# Altium schematic symbol library L-Inductor_Choke.SCHLIB: 27 symbols
Pins are listed as number, name and electrical type; pins without a type are passive.

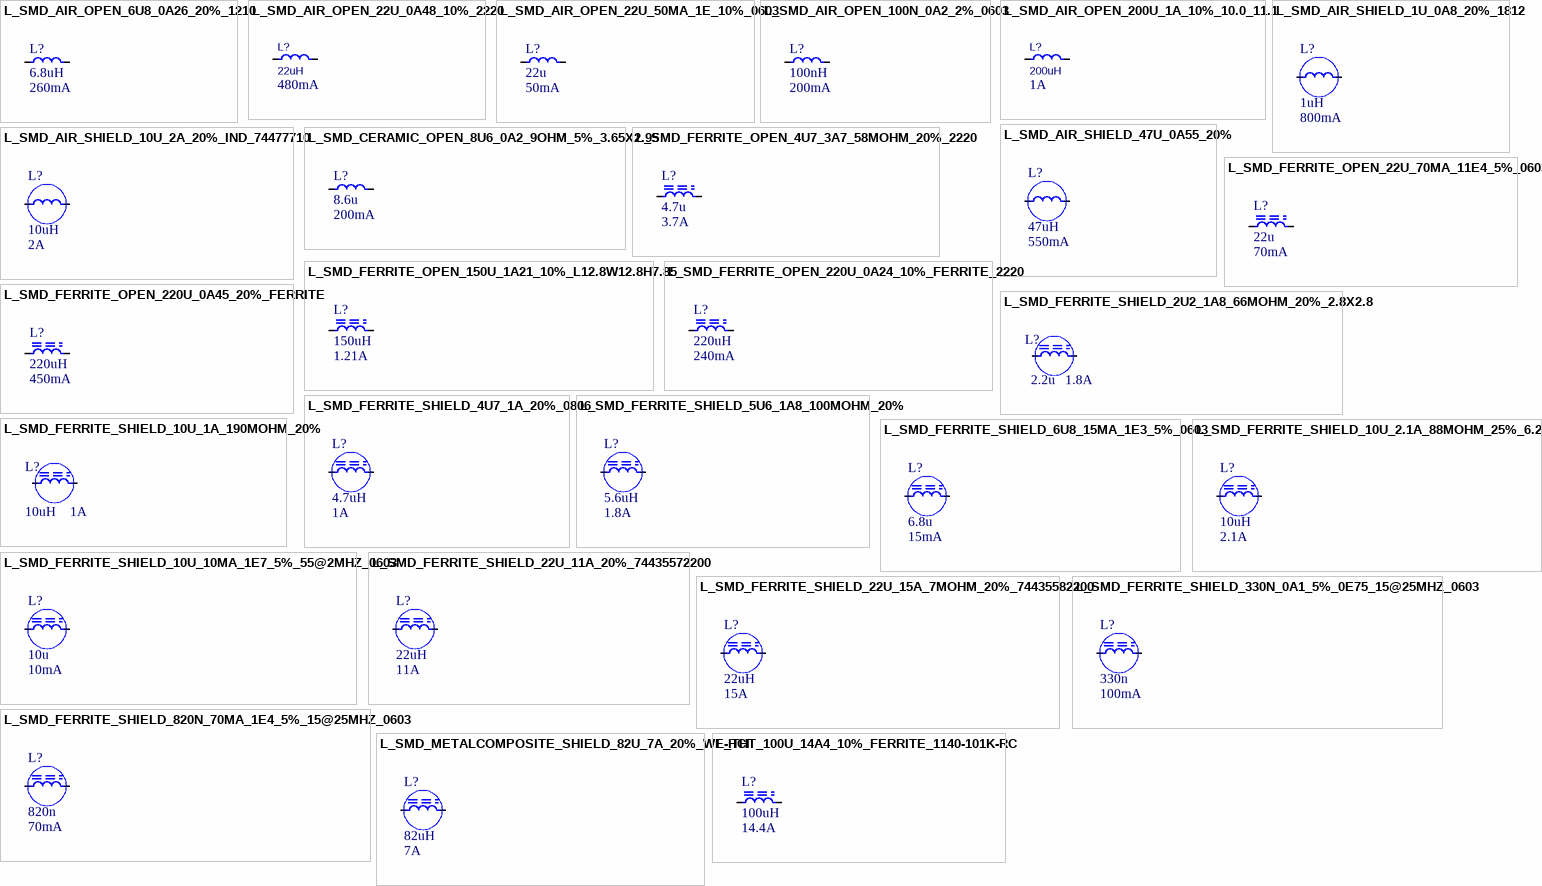
[diagram p0: symbols L_SMD_AIR_OPEN_6U8_0A26_20%_1210 to L_THT_100U_14A4_10%_FERRITE_1140-101K-RC]

## L_SMD_AIR_OPEN_6U8_0A26_20%_1210
designator L?  value 6.8uH  Value2: 260mA
SMD Inductor; Supplier - Farnell: 2407478
footprint SMD_1210
pins: 1, 2

## L_SMD_AIR_OPEN_22U_0A48_10%_2220
designator L?  value 22uH  Value2: 480mA
Inductor; Supplier - Digikey: 445-3535-1-ND
footprint SMD_INDUCT_5.6-5
pins: 1, 2

## L_SMD_AIR_OPEN_22U_50MA_1E_10%_0603
designator L?  value 22u  Value2: 50mA
SMD Inductor; Supplier - Digikey: 587-1715-1-ND
footprint SMD_0603
pins: 1, 2

## L_SMD_AIR_OPEN_100N_0A2_2%_0603
designator L?  value 100nH  Value2: 200mA
Non-magnetic-core; Supplier - Digikey: PCD2014CT-ND
footprint SMD_0603
pins: 1, 2

## L_SMD_AIR_OPEN_200U_1A_10%_10.0_11.1
designator L?  value 200uH  Value2: 1A
SMD Inductor; Manufacturer Number: SDR1105-201K; Supplier - Mouser: 652-SDR1105-201KL
footprint SMD_INDUCT-SDR1105-201KL
pins: 1, 2

## L_SMD_AIR_SHIELD_1U_0A8_20%_1812
designator L?  value 1uH  Value2: 800mA  (hidden comment: L_SMD_AIR_SHIELD_1U_0A8_20%_1812)
SMD Coil; Supplier - Digikey: 445-6464-1-ND
footprint SMD_IND_1812
pins: 1, 2

## L_SMD_AIR_SHIELD_10U_2A_20%_IND_74477710
designator L?  value 10uH  Value2: 2A
SMD Inductor; Type: 74477710; Supplier - Digikey: 732-1200-1-ND
footprint SMD_INDUCT_74477710
pins: 1, 2

## L_SMD_AIR_SHIELD_47U_0A55_20%
designator L?  value 47uH  Value2: 550mA
SMD Inductor; Supplier - Digikey: 732-7230-1-ND
footprint SMD_INDUCT-74404041470
pins: 1, 2

## L_SMD_CERAMIC_OPEN_8U6_0A2_9OHM_5%_3.65X2.95
designator L?  value 8.6u  Value2: 200mA
footprint SMD_INDUCT-AISC-1210
pins: 1, 2

## L_SMD_FERRITE_OPEN_4U7_3A7_58MOHM_20%_2220
designator L?  value 4.7u  Value2: 3.7A
SMD Inductor; Supplier - Digikey: ASPI-0520LR-4R7M-T2CT-ND
footprint SMD_INDUCT_5.6x5.2_ASPI-0520LR-4R7M-T2
pins: 1, 2

## L_SMD_FERRITE_OPEN_22U_70MA_11E4_5%_0603
designator L?  value 22u  Value2: 70mA
SMD Inductor; Supplier - Digikey: 535-12540-1-ND
footprint SMD_0603
pins: 1, 2

## L_SMD_FERRITE_OPEN_150U_1A21_10%_L12.8W12.8H7.85
designator L?  value 150uH  Value2: 1.21A
SMD Coil; Supplier - E+H-flowtec SAP: 71022840
footprint L-WIRE_L12.8W12.8H7.85
pins: 1, 2

## L_SMD_FERRITE_OPEN_220U_0A24_10%_FERRITE_2220
designator L?  value 220uH  Value2: 240mA
Supplier - Digikey: 495-1789-1-ND
footprint SMD_INDUCT-2220
pins: 1, 2

## L_SMD_FERRITE_OPEN_220U_0A45_20%_FERRITE
designator L?, comment value 220uH  Value2: 450mA  (hidden comment: FIXED IND 220UH  624 MOHM)
FIXED IND 220UH 330MA 624 MOHM; Type: SLF7045T-221MR33-PF; Supplier - Digikey: 445-2020-1-ND
footprint SMD_INDUCT-SLF7045T-221MR33-PF (SLF7045T-221MR33-PF)
pins: 1, 2

## L_SMD_FERRITE_SHIELD_2U2_1A8_66MOHM_20%_2.8X2.8
designator L?  value 2.2u  Value2: 1.8A  (hidden comment: L_SMD_FERRITE_SHIELD_2U2_1A8_66MOHM_20%_2.8X2.8)
FIXED IND 2.2UH 1.8A 66 MOHM SMD; Supplier - Digikey: 732-2613-1-ND
footprint SMD_INDUCT-744025002 (FIXED IND 2.2UH 1.8A 66 MOHM SMD)
pins: 1, 2

## L_SMD_FERRITE_SHIELD_4U7_1A_20%_0806
designator L?  value 4.7uH  Value2: 1A  (hidden comment: L_SMD_FERRITE_SHIELD_4U7_1A_20%_0806)
SMD Inductor; Supplier - Digikey: 732-2956-1-ND
footprint SMD_IND_0806
pins: 1, 2

## L_SMD_FERRITE_SHIELD_5U6_1A8_100MOHM_20%
designator L?  value 5.6uH  Value2: 1.8A
Supplier - Farnell: 2288574
footprint SMD_INDUCT-MSS5121-562MLB
pins: 1, 2

## L_SMD_FERRITE_SHIELD_6U8_15MA_1E3_5%_0603
designator L?  value 6.8u  Value2: 15mA
SMD Inductor; Supplier - Digikey: 445-173923-1-ND
footprint SMD_0603
pins: 1, 2

## L_SMD_FERRITE_SHIELD_10U_1A_190MOHM_20%
designator L?  value 10uH  Value2: 1A  (hidden comment: L_SMD_FERRITE_SHIELD_10U_1A_190MOHM_20%)
FIXED IND 10UH 1A 190 MOHM SMD; Type: 744025100; Supplier - Digikey: 732-2617-1-ND
footprint SMD_INDUCT-744025100
pins: 1, 2

## L_SMD_FERRITE_SHIELD_10U_2.1A_88MOHM_25%_6.2X5.9
designator L?  value 10uH  Value2: 2.1A
Supplier - Farnell: 1890620
footprint SMD_INDUCT-744778610
pins: 1, 2

## L_SMD_FERRITE_SHIELD_10U_10MA_1E7_5%_55@2MHZ_0603
designator L?  value 10u  Value2: 10mA
SMD Inductor; Supplier - Digikey: 445-173914-1-ND
footprint SMD_0603
pins: 1, 2

## L_SMD_FERRITE_SHIELD_22U_11A_20%_74435572200
designator L?  value 22uH  Value2: 11A
Supplier - Digikey: 732-2177-1-ND
footprint SMD_INDUCT_74435572200
pins: 1, 2

## L_SMD_FERRITE_SHIELD_22U_15A_7MOHM_20%_74435582200
designator L?  value 22uH  Value2: 15A
Core Material: Manganese Zinc; Supplier - Digikey: 732-4237-1-ND
footprint SMD_INDUCT-74435582200
pins: 1, 2

## L_SMD_FERRITE_SHIELD_330N_0A1_5%_0E75_15@25MHZ_0603
designator L?  value 330n  Value2: 100mA
SMD Inductor; Supplier - Digikey: 445-16961-1-ND
footprint SMD_0603
pins: 1, 2

## L_SMD_FERRITE_SHIELD_820N_70MA_1E4_5%_15@25MHZ_0603
designator L?  value 820n  Value2: 70mA
SMD Inductor; Supplier - Digikey: 445-16976-1-ND
footprint SMD_0603
pins: 1, 2

## L_SMD_METALCOMPOSITE_SHIELD_82U_7A_20%_WE-HCI
designator L?  value 82uH  Value2: 7A
SMD IHigh Current nductor; Type: WE-HCI Series; Supplier - Digikey: 732-4241-1-ND
footprint SMD_INDUCT_WE-HCI
pins: 1, 2

## L_THT_100U_14A4_10%_FERRITE_1140-101K-RC
designator L?  value 100uH  Value2: 14.4A  (hidden comment: L_THT_100U_14A4_10%_FERRITE_1140-101K-RC)
THT Coil; Type: 1140-101K-RC; Supplier - Digikey: M8377-ND
footprint THT_COIL_1140-101K-RC
pins: 1, 2